# EAGLE library part BD9D321 (library comma.ai)
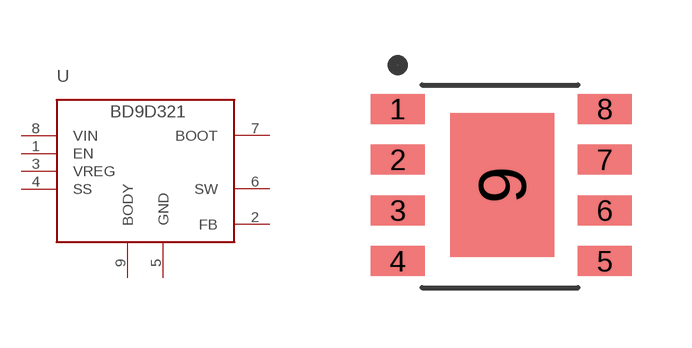
[diagram p7: symbol with the pads of HTSOP-J8; footprint HTSOP-J8]

Designator prefix -

## BD9D321  [HTSOP-J8]
1  EN
2  FB
3  VREG
4  SS
5  GND
6  SW
7  BOOT
8  VIN
9  BODY

## Footprint HTSOP-J8 (pad centres in mm)
smd 1.35 x 0.75: 1 0,0; 2 0,-1.27; 3 0,-2.54; 4 0,-3.81; 5 5.17,-3.81; 6 5.17,-2.54; 7 5.17,-1.27; 8 5.17,0
smd 2.6 x 3.6: 9 2.6,-1.9